# Altium footprint library MAX30102EFD&plus_.PcbLib: 3 footprints
Each footprint in its own frame and in the unit in brackets; x right, y up, seen from the top. Pads: shape width x height; smd on the part's side, far side on the other; paste and mask are expansions set on the pad; w line width, h text height; cw(c..) or ccw(c..) is an arc to the next point about the centre after c.
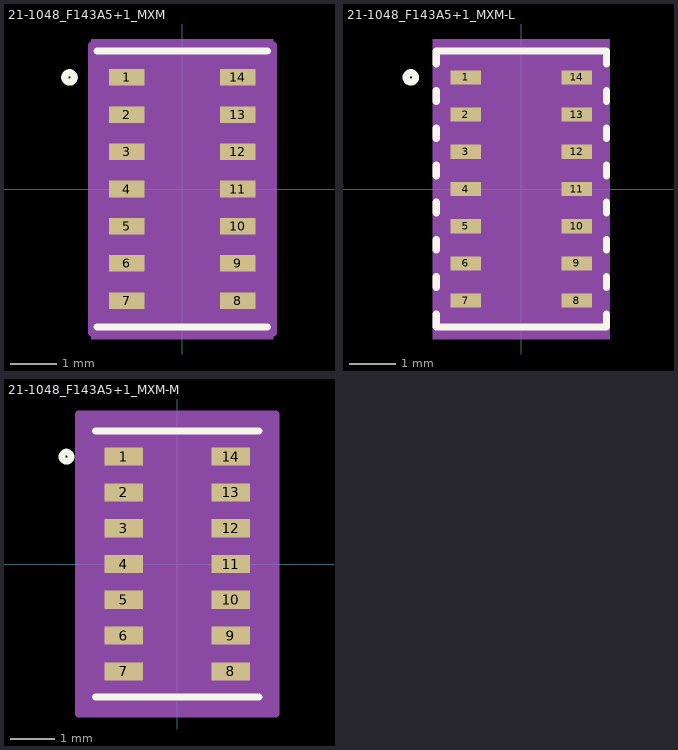
[diagram p0: the footprints below, top view; thin cyan lines are the x and y axes]

## 21-1048_F143A5+1_MXM [mil]
pads (14):
  rect 30x14 smd paste+0 mask+0: 1(-47,94.49) 2(-47,62.99) 3(-47,31.5) 4(-47,0) 5(-47,-31.5) 6(-47,-62.99) 7(-47,-94.49) 8(47,-94.49) 9(47,-62.99) 10(47,-31.5) 11(47,0) 12(47,31.5) 13(47,62.99) 14(47,94.49)
Top Overlay:
  circle w6: c-95.5,94.49 r4
  lines w6: -72,-117 72,-117 ; -72,117 72,117
Mechanical 5:
  region: 77,-127 -77,-127 -77,127 77,127
Mechanical 13:
  circle w0: c-32,94.49 r3
  lines w0: -12,112 ccw(c0,112) 12,112
  lines w1: -67,-112 -67,112 67,112 67,-112 -67,-112
Mechanical 15:
  region: -77,-111.49 -77,111.49 -77,122 77,122 77,111.49 77,-111.49 77,-122 -77,-122
  lines w6: -77,-122 77,-122 77,-111.49 77,111.49 77,122 -77,122 -77,111.49 -77,-111.49 -77,-122
3D body "21-1048_F143A5+1_MXM.step": height 65.12, standoff 0, extent -67.01,-112.01 67.01,112.01

## 21-1048_F143A5+1_MXM-L [mil]
pads (14):
  rect 26x12 smd paste+0 mask+0: 1(-47,94.49) 2(-47,62.99) 3(-47,31.5) 4(-47,0) 5(-47,-31.5) 6(-47,-62.99) 7(-47,-94.49) 8(47,-94.49) 9(47,-62.99) 10(47,-31.5) 11(47,0) 12(47,31.5) 13(47,62.99) 14(47,94.49)
Top Overlay:
  circle w6: c-93.5,94.49 r4
  lines w6: -72,-105.74 -72,-117 72,-117 72,-105.74 ; -72,-83.23 -72,-74.25 ; -72,-51.74 -72,-42.75 ; -72,-20.24 -72,-11.25 ; -72,11.25 -72,20.24 ; -72,42.75 -72,51.74 ; -72,74.25 -72,83.23 ; -72,105.74 -72,117 72,117 72,105.74 ; 72,-83.23 72,-74.25 ; 72,-51.74 72,-42.75 ; 72,-20.24 72,-11.25 ; 72,11.25 72,20.24 ; 72,42.75 72,51.74 ; 72,74.25 72,83.23
Mechanical 5:
  region: 75,-127 -75,-127 -75,127 75,127
Mechanical 13:
  circle w0: c-34,94.49 r3
  lines w0: -12,112 ccw(c0,112) 12,112
  lines w1: -67,-112 -67,112 67,112 67,-112 -67,-112
Mechanical 15:
  region: -71,-104.49 -71,104.49 -71,116 71,116 71,104.49 71,-104.49 71,-116 -71,-116
  lines w6: -71,-116 71,-116 71,-104.49 71,104.49 71,116 -71,116 -71,104.49 -71,-104.49 -71,-116
3D body "21-1048_F143A5+1_MXM.step": height 65.12, standoff 0, extent -67.01,-112.01 67.01,112.01

## 21-1048_F143A5+1_MXM-M [mil]
pads (14):
  rect 34x16 smd paste+0 mask+0: 1(-47,94.49) 2(-47,62.99) 3(-47,31.5) 4(-47,0) 5(-47,-31.5) 6(-47,-62.99) 7(-47,-94.49) 8(47,-94.49) 9(47,-62.99) 10(47,-31.5) 11(47,0) 12(47,31.5) 13(47,62.99) 14(47,94.49)
Top Overlay:
  circle w6: c-97.5,94.49 r4
  lines w6: -72,-117 72,-117 ; -72,117 72,117
Mechanical 5:
  region: 79,-127 -79,-127 -79,127 79,127
Mechanical 13:
  circle w0: c-30,94.49 r3
  lines w0: -12,112 ccw(c0,112) 12,112
  lines w1: -67,-112 -67,112 67,112 67,-112 -67,-112
Mechanical 15:
  region: -87,-122.49 -87,122.49 -87,132 87,132 87,122.49 87,-122.49 87,-132 -87,-132
  lines w6: -87,-132 87,-132 87,-122.49 87,122.49 87,132 -87,132 -87,122.49 -87,-122.49 -87,-132
3D body "21-1048_F143A5+1_MXM.step": height 65.12, standoff 0, extent -67.01,-112.01 67.01,112.01